# EAGLE library part ATMEGA64A-MU (library Atmel)
8-bit AVR Microcontroller with 64K Bytes In-System Programmable Flash
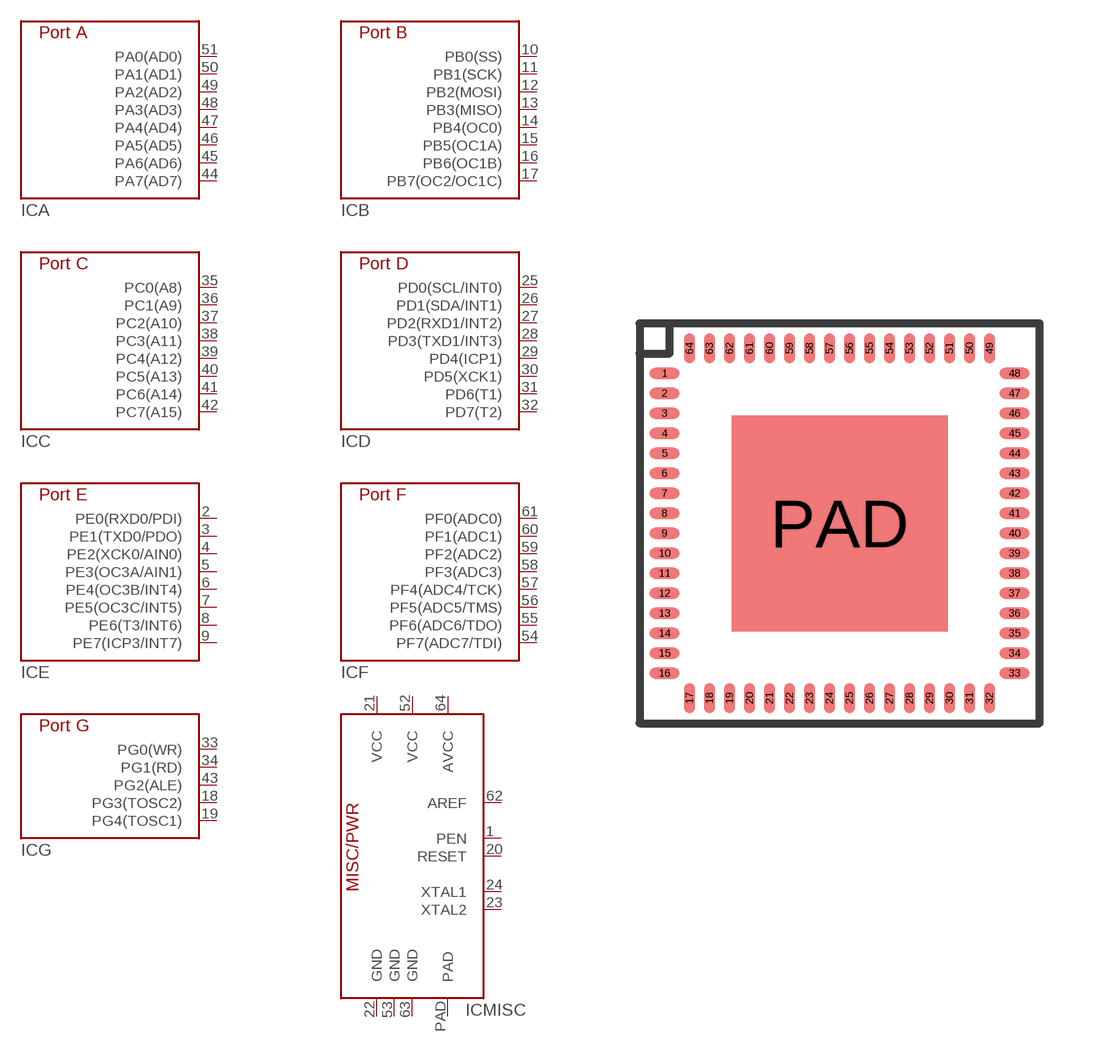
[diagram p15: symbol with the pads of MLF64-64M1; footprint MLF64-64M1]

Designator prefix IC; gates A=ATMEGA64-A B=ATMEGA64-B C=ATMEGA64-C D=ATMEGA64-D E=ATMEGA64-E F=ATMEGA64-F G=ATMEGA64-G MISC=ATMEGA64-MISC-PAD

## ATMEGA64A-MU  [MLF64-64M1]
1  MISC:PEN
2  E:PE0(RXD0/PDI)
3  E:PE1(TXD0/PDO)
4  E:PE2(XCK0/AIN0)
5  E:PE3(OC3A/AIN1)
6  E:PE4(OC3B/INT4)
7  E:PE5(OC3C/INT5)
8  E:PE6(T3/INT6)
9  E:PE7(ICP3/INT7)
10  B:PB0(SS)
11  B:PB1(SCK)
12  B:PB2(MOSI)
13  B:PB3(MISO)
14  B:PB4(OC0)
15  B:PB5(OC1A)
16  B:PB6(OC1B)
17  B:PB7(OC2/OC1C)
18  G:PG3(TOSC2)
19  G:PG4(TOSC1)
20  MISC:RESET
21  MISC:VCC  pwr
22  MISC:GND  pwr
23  MISC:XTAL2
24  MISC:XTAL1
25  D:PD0(SCL/INT0)
26  D:PD1(SDA/INT1)
27  D:PD2(RXD1/INT2)
28  D:PD3(TXD1/INT3)
29  D:PD4(ICP1)
30  D:PD5(XCK1)
31  D:PD6(T1)
32  D:PD7(T2)
33  G:PG0(WR)
34  G:PG1(RD)
35  C:PC0(A8)
36  C:PC1(A9)
37  C:PC2(A10)
38  C:PC3(A11)
39  C:PC4(A12)
40  C:PC5(A13)
41  C:PC6(A14)
42  C:PC7(A15)
43  G:PG2(ALE)
44  A:PA7(AD7)
45  A:PA6(AD6)
46  A:PA5(AD5)
47  A:PA4(AD4)
48  A:PA3(AD3)
49  A:PA2(AD2)
50  A:PA1(AD1)
51  A:PA0(AD0)
52  MISC:VCC  pwr
53  MISC:GND  pwr
54  F:PF7(ADC7/TDI)
55  F:PF6(ADC6/TDO)
56  F:PF5(ADC5/TMS)
57  F:PF4(ADC4/TCK)
58  F:PF3(ADC3)
59  F:PF2(ADC2)
60  F:PF1(ADC1)
61  F:PF0(ADC0)
62  MISC:AREF
63  MISC:GND  pwr
64  MISC:AVCC  pwr
PAD  MISC:PAD

## Footprint MLF64-64M1 (pad centres in mm)
64M1, 64 pad, 9x9x1.0mm Body, Lead Pitch 0.50mm, 5.40mm exposed pad, MLF
smd 0.75 x 0.28: 1 -4.375,3.75; 2 -4.375,3.25; 3 -4.375,2.75; 4 -4.375,2.25; 5 -4.375,1.75; 6 -4.375,1.25; 7 -4.375,0.75; 8 -4.375,0.25; 9 -4.375,-0.25; 10 -4.375,-0.75; 11 -4.375,-1.25; 12 -4.375,-1.75; 13 -4.375,-2.25; 14 -4.375,-2.75; 15 -4.375,-3.25; 16 -4.375,-3.75; 33 4.375,-3.75; 34 4.375,-3.25; 35 4.375,-2.75; 36 4.375,-2.25; 37 4.375,-1.75; 38 4.375,-1.25; 39 4.375,-0.75; 40 4.375,-0.25; 41 4.375,0.25; 42 4.375,0.75; 43 4.375,1.25; 44 4.375,1.75; 45 4.375,2.25; 46 4.375,2.75; 47 4.375,3.25; 48 4.375,3.75
smd 0.28 x 0.75: 17 -3.75,-4.375; 18 -3.25,-4.375; 19 -2.75,-4.375; 20 -2.25,-4.375; 21 -1.75,-4.375; 22 -1.25,-4.375; 23 -0.75,-4.375; 24 -0.25,-4.375; 25 0.25,-4.375; 26 0.75,-4.375; 27 1.25,-4.375; 28 1.75,-4.375; 29 2.25,-4.375; 30 2.75,-4.375; 31 3.25,-4.375; 32 3.75,-4.375; 49 3.75,4.375; 50 3.25,4.375; 51 2.75,4.375; 52 2.25,4.375; 53 1.75,4.375; 54 1.25,4.375; 55 0.75,4.375; 56 0.25,4.375; 57 -0.25,4.375; 58 -0.75,4.375; 59 -1.25,4.375; 60 -1.75,4.375; 61 -2.25,4.375; 62 -2.75,4.375; 63 -3.25,4.375; 64 -3.75,4.375
smd 5.4 x 5.4: PAD 0,0